# EAGLE library part PIC_HEADER (library me422_hw2)
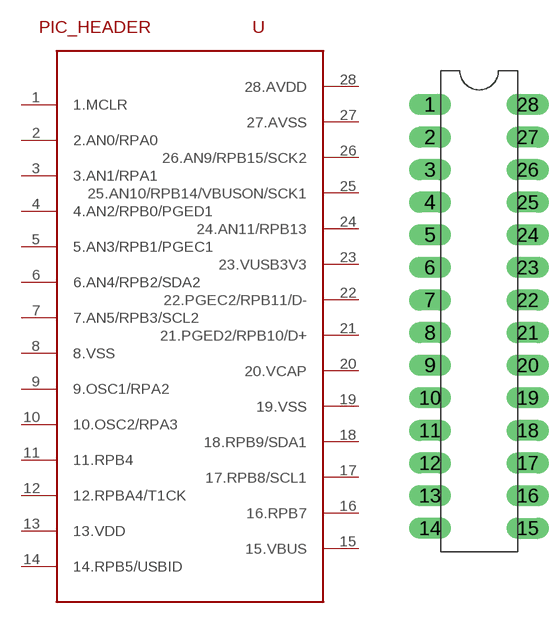
[diagram p17: symbol with the pads of PIC_HEADER; footprint PIC_HEADER]

Designator prefix -

## PIC_HEADER  [PIC_HEADER]
1  1.MCLR
2  2.AN0/RPA0
3  3.AN1/RPA1
4  4.AN2/RPB0/PGED1
5  5.AN3/RPB1/PGEC1
6  6.AN4/RPB2/SDA2
7  7.AN5/RPB3/SCL2
8  8.VSS
9  9.OSC1/RPA2
10  10.OSC2/RPA3
11  11.RPB4
12  12.RPBA4/T1CK
13  13.VDD
14  14.RPB5/USBID
15  15.VBUS
16  16.RPB7
17  17.RPB8/SCL1
18  18.RPB9/SDA1
19  19.VSS
20  20.VCAP
21  21.PGED2/RPB10/D+
22  22.PGEC2/RPB11/D-
23  23.VUSB3V3
24  24.AN11/RPB13
25  25.AN10/RPB14/VBUSON/SCK1
26  26.AN9/RPB15/SCK2
27  27.AVSS
28  28.AVDD

## Footprint PIC_HEADER (pad centres in mm)
drill 1.1 long: 1 -53.34,22.86; 2 -53.34,20.32; 3 -53.34,17.78; 4 -53.34,15.24; 5 -53.34,12.7; 6 -53.34,10.16; 7 -53.34,7.62; 8 -53.34,5.08; 9 -53.34,2.54; 10 -53.34,0; 11 -53.34,-2.54; 12 -53.34,-5.08; 13 -53.34,-7.62; 14 -53.34,-10.16; 15 -45.72,-10.16; 16 -45.72,-7.62; 17 -45.72,-5.08; 18 -45.72,-2.54; 19 -45.72,0; 20 -45.72,2.54; 21 -45.72,5.08; 22 -45.72,7.62; 23 -45.72,10.16; 24 -45.72,12.7; 25 -45.72,15.24; 26 -45.72,17.78; 27 -45.72,20.32; 28 -45.72,22.86